# Altium schematic symbol library TDCR1060M.SchLib: 2 symbols
Pins are listed as number, name and electrical type; pins without a type are passive.

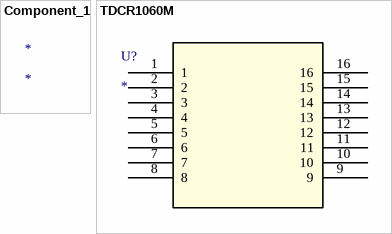
[diagram p0: symbols Component_1 to TDCR1060M]

## Component_1
designator *

## TDCR1060M
designator U?
No Description Available; Mfr_Name: Vishay; RefDes: RefDes; Type: Type
footprint TDCG1060M_VIS
pins: 1, 2, 3, 4, 5, 6, 7, 8, 9, 10, 11, 12, 13, 14, 15, 16